# EAGLE library part ATMEGA162 (library atmel-avr)
MICROCONTROLLER 16 Bytes of ISP Flash
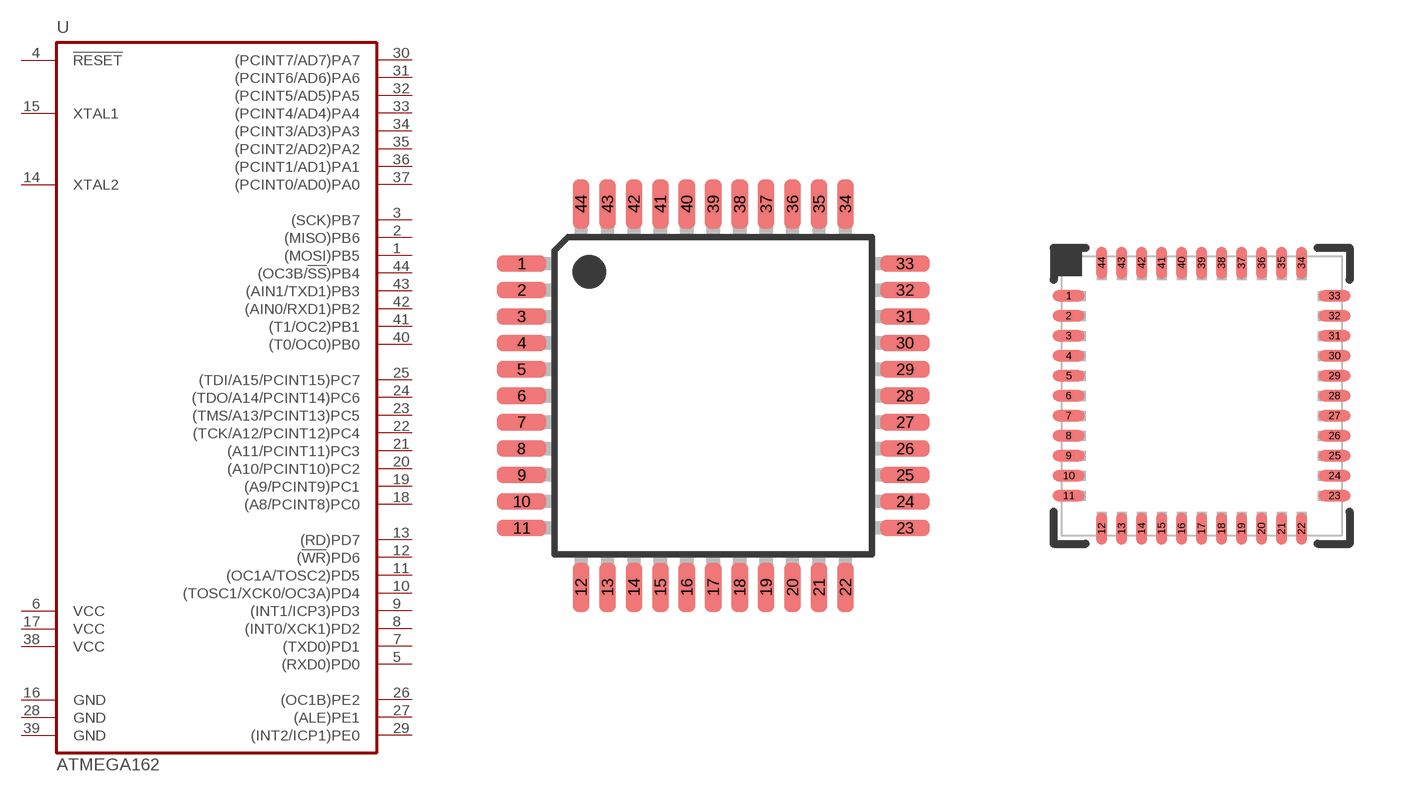
[diagram p5: symbol with the pads of TQFP44A; footprints TQFP44A, VQFN44M1]

Designator prefix U

## ATMEGA162-A  [TQFP44A]
1  (MOSI)PB5
2  (MISO)PB6
3  (SCK)PB7
4  !RESET!  in
5  (RXD0)PD0
6  VCC  pwr
7  (TXD0)PD1
8  (INT0/XCK1)PD2
9  (INT1/ICP3)PD3
10  (TOSC1/XCK0/OC3A)PD4
11  (OC1A/TOSC2)PD5
12  (!WR!)PD6
13  (RD)PD7
14  XTAL2  pas
15  XTAL1  pas
16  GND  pwr
17  VCC  pwr
18  (A8/PCINT8)PC0
19  (A9/PCINT9)PC1
20  (A10/PCINT10)PC2
21  (A11/PCINT11)PC3
22  (TCK/A12/PCINT12)PC4  in
23  (TMS/A13/PCINT13)PC5  in
24  (TDO/A14/PCINT14)PC6  out
25  (TDI/A15/PCINT15)PC7  in
26  (OC1B)PE2
27  (ALE)PE1
28  GND  pwr
29  (INT2/ICP1)PE0
30  (PCINT7/AD7)PA7
31  (PCINT6/AD6)PA6
32  (PCINT5/AD5)PA5
33  (PCINT4/AD4)PA4
34  (PCINT3/AD3)PA3
35  (PCINT2/AD2)PA2
36  (PCINT1/AD1)PA1
37  (PCINT0/AD0)PA0
38  VCC  pwr
39  GND  pwr
40  (T0/OC0)PB0
41  (T1/OC2)PB1
42  (AIN0/RXD1)PB2
43  (AIN1/TXD1)PB3
44  (OC3B/!SS!)PB4

## ATMEGA162-M1  [VQFN44M1]
Pads as for TQFP44A

## Footprint TQFP44A (pad centres in mm)
Thin Profile Plastic Quad Flat Package (TQFP) 44A, 44-lead, 10 x 10 mm Body Size, 1.0 mm Body Thickness, 0.8 mm Lead Pitch
smd 1.5 x 0.5: 1 -5.8,4; 2 -5.8,3.2; 3 -5.8,2.4; 4 -5.8,1.6; 5 -5.8,0.8; 6 -5.8,0; 7 -5.8,-0.8; 8 -5.8,-1.6; 9 -5.8,-2.4; 10 -5.8,-3.2; 11 -5.8,-4; 23 5.8,-4; 24 5.8,-3.2; 25 5.8,-2.4; 26 5.8,-1.6; 27 5.8,-0.8; 28 5.8,0; 29 5.8,0.8; 30 5.8,1.6; 31 5.8,2.4; 32 5.8,3.2; 33 5.8,4
smd 0.5 x 1.5: 12 -4,-5.8; 13 -3.2,-5.8; 14 -2.4,-5.8; 15 -1.6,-5.8; 16 -0.8,-5.8; 17 0,-5.8; 18 0.8,-5.8; 19 1.6,-5.8; 20 2.4,-5.8; 21 3.2,-5.8; 22 4,-5.8; 34 4,5.8; 35 3.2,5.8; 36 2.4,5.8; 37 1.6,5.8; 38 0.8,5.8; 39 0,5.8; 40 -0.8,5.8; 41 -1.6,5.8; 42 -2.4,5.8; 43 -3.2,5.8; 44 -4,5.8

## Footprint VQFN44M1 (pad centres in mm)
Plastic Very Thin Quad Flat NoLead Package (VQFN) 44M1, 44-pad, 7 x 7 x 1.0 mm Body, Lead Pitch 0.50 mm, 5.20 mm Exposed Pad, Thermally Enhanced
smd 0.8 x 0.28: 1 -3.325,2.5; 2 -3.325,2; 3 -3.325,1.5; 4 -3.325,1; 5 -3.325,0.5; 6 -3.325,0; 7 -3.325,-0.5; 8 -3.325,-1; 9 -3.325,-1.5; 10 -3.325,-2; 11 -3.325,-2.5; 23 3.325,-2.5; 24 3.325,-2; 25 3.325,-1.5; 26 3.325,-1; 27 3.325,-0.5; 28 3.325,0; 29 3.325,0.5; 30 3.325,1; 31 3.325,1.5; 32 3.325,2; 33 3.325,2.5
smd 0.28 x 0.8: 12 -2.5,-3.325; 13 -2,-3.325; 14 -1.5,-3.325; 15 -1,-3.325; 16 -0.5,-3.325; 17 0,-3.325; 18 0.5,-3.325; 19 1,-3.325; 20 1.5,-3.325; 21 2,-3.325; 22 2.5,-3.325; 34 2.5,3.325; 35 2,3.325; 36 1.5,3.325; 37 1,3.325; 38 0.5,3.325; 39 0,3.325; 40 -0.5,3.325; 41 -1,3.325; 42 -1.5,3.325; 43 -2,3.325; 44 -2.5,3.325